# Altium footprint library AXK6A2337YG.PcbLib: 1 footprints
Each footprint in its own frame and in the unit in brackets; x right, y up, seen from the top. Pads: shape width x height; smd on the part's side, far side on the other; paste and mask are expansions set on the pad; w line width, h text height; cw(c..) or ccw(c..) is an arc to the next point about the centre after c.
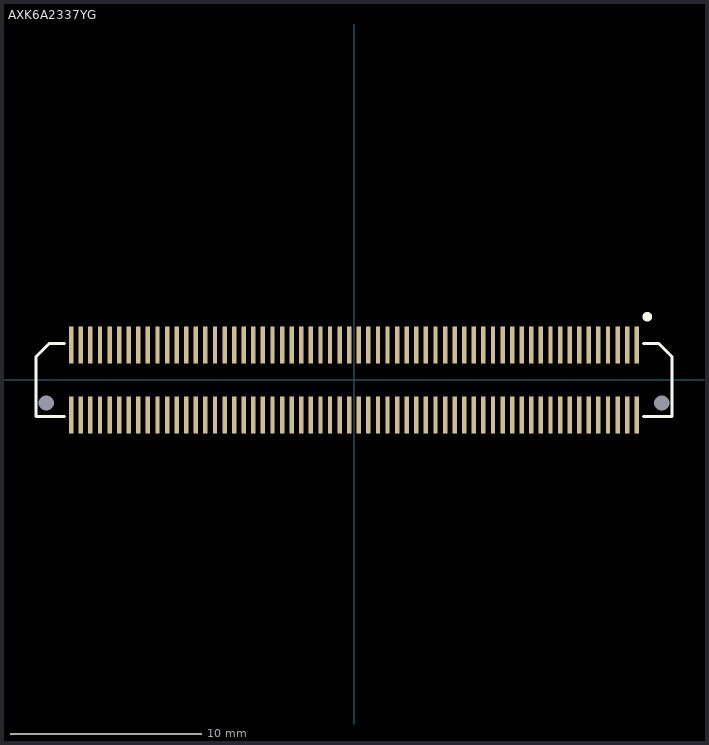
[diagram p0: the footprint, top view; thin cyan lines are the x and y axes]

## AXK6A2337YG [mm] "120-pin Header 0.5mm pitch"
height 2.4
pads (122):
  rect 0.23x1.95 smd: 1(14.75,1.825) 2(14.75,-1.825) 3(14.25,1.825) 4(14.25,-1.825) 5(13.75,1.825) 6(13.75,-1.825) 7(13.25,1.825) 8(13.25,-1.825) 9(12.75,1.825) 10(12.75,-1.825) 11(12.25,1.825) 12(12.25,-1.825) 13(11.75,1.825) 14(11.75,-1.825) 15(11.25,1.825) 16(11.25,-1.825) 17(10.75,1.825) 18(10.75,-1.825) 19(10.25,1.825) 20(10.25,-1.825) 21(9.75,1.825) 22(9.75,-1.825) 23(9.25,1.825) 24(9.25,-1.825) 25(8.75,1.825) 26(8.75,-1.825) 27(8.25,1.825) 28(8.25,-1.825) 29(7.75,1.825) 30(7.75,-1.825) 31(7.25,1.825) 32(7.25,-1.825) 33(6.75,1.825) 34(6.75,-1.825) 35(6.25,1.825) 36(6.25,-1.825) 37(5.75,1.825) 38(5.75,-1.825) 39(5.25,1.825) 40(5.25,-1.825) 41(4.75,1.825) 42(4.75,-1.825) 43(4.25,1.825) 44(4.25,-1.825) 45(3.75,1.825) 46(3.75,-1.825) 47(3.25,1.825) 48(3.25,-1.825) 49(2.75,1.825) 50(2.75,-1.825) 51(2.25,1.825) 52(2.25,-1.825) 53(1.75,1.825) 54(1.75,-1.825) 55(1.25,1.825) 56(1.25,-1.825) 57(0.75,1.825) 58(0.75,-1.825) 59(0.25,1.825) 60(0.25,-1.825) 61(-0.25,1.825) 62(-0.25,-1.825) 63(-0.75,1.825) 64(-0.75,-1.825) 65(-1.25,1.825) 66(-1.25,-1.825) 67(-1.75,1.825) 68(-1.75,-1.825) 69(-2.25,1.825) 70(-2.25,-1.825) 71(-2.75,1.825) 72(-2.75,-1.825) 73(-3.25,1.825) 74(-3.25,-1.825) 75(-3.75,1.825) 76(-3.75,-1.825) 77(-4.25,1.825) 78(-4.25,-1.825) 79(-4.75,1.825) 80(-4.75,-1.825) 81(-5.25,1.825) 82(-5.25,-1.825) 83(-5.75,1.825) 84(-5.75,-1.825) 85(-6.25,1.825) 86(-6.25,-1.825) 87(-6.75,1.825) 88(-6.75,-1.825) 89(-7.25,1.825) 90(-7.25,-1.825) 91(-7.75,1.825) 92(-7.75,-1.825) 93(-8.25,1.825) 94(-8.25,-1.825) 95(-8.75,1.825) 96(-8.75,-1.825) 97(-9.25,1.825) 98(-9.25,-1.825) 99(-9.75,1.825) 100(-9.75,-1.825) 101(-10.25,1.825) 102(-10.25,-1.825) 103(-10.75,1.825) 104(-10.75,-1.825) 105(-11.25,1.825) 106(-11.25,-1.825) 107(-11.75,1.825) 108(-11.75,-1.825) 109(-12.25,1.825) 110(-12.25,-1.825) 111(-12.75,1.825) 112(-12.75,-1.825) 113(-13.25,1.825) 114(-13.25,-1.825) 115(-13.75,1.825) 116(-13.75,-1.825) 117(-14.25,1.825) 118(-14.25,-1.825) 119(-14.75,1.825) 120(-14.75,-1.825)
  round 0 hole 0.8: ""(-16.05,-1.2) ""(16.05,-1.2)
Top Overlay:
  circle w0.254: c15.3,3.3 r0.125
  lines w0.15: -15.1,-1.9 -16.6,-1.9 -16.6,0.7 -16.6,1.2 -15.9,1.9 -15.1,1.9 ; 15.1,-1.9 16.6,-1.9 16.6,0.7 16.6,1.2 15.9,1.9 15.1,1.9
3D body "AXK6A2337YG.step": height 2.4, standoff -0.4, extent -16.6,-2.3 16.6,2.3